# EAGLE library part USB2_MICRO_CON (library --CoolTeamLib)
Amphenol FCI B 2.0 Micro USB Connector Receptacle, Right Angle Source: Datasheet <https://componentsearchengine.com/Datasheets/1/10104110-0001LF.pdf>
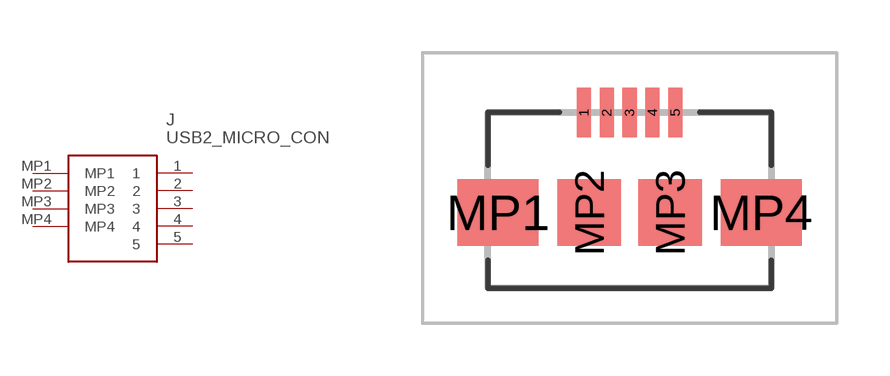
[diagram p2: symbol with the pads of 101041100001LF; footprint 101041100001LF]

Designator prefix J

## USB2_MICRO_CON (DESCRIPTION: Amphenol FCI B 2.0 Micro USB Connector Receptacle, Right Angle; HEIGHT: 2.98mm; MANUFACTURER_NAME: Amphenol; MANUFACTURER_PART_NUMBER: 10104110-0001LF; MOUSER_PART_NUMBER: 649-10104110-0001LF; MOUSER_PRICE-STOCK: https://www.mouser.co.uk/ProductDetail/Amphenol-FCI/10104110-0001LF/?qs=3wMSRtz0%252BRoQF1VV4tle7w%3D%3D)  [101041100001LF]
1  1
2  2
3  3
4  4
5  5
MP1  MP1
MP2  MP2
MP3  MP3
MP4  MP4

## Footprint 101041100001LF (pad centres in mm)
10104110-0001LF
smd 0.4 x 1.4: 1 -1.3,2.85; 2 -0.65,2.85; 3 0,2.85; 4 0.65,2.85; 5 1.3,2.85
smd 2.3 x 1.9: MP1 -3.75,0; MP4 3.75,0
smd 1.8 x 1.9: MP2 -1.15,0; MP3 1.15,0